# Altium schematic symbol library MOSFETs-DirectFET.SchLib: 2 symbols
Pins are listed as number, name and electrical type; pins without a type are passive.

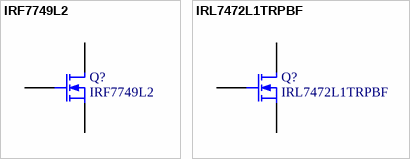
[diagram p0: symbols IRF7749L2 to IRL7472L1TRPBF]

## IRF7749L2
designator Q?
N-Channel MOSFET; PartNumber: IRF7749L1TRPBF; Manufacturer: Infineon Technologies; PackageReference: DIRECTFET L8; PackageDescription: DirectFET™ Isometric L8; Mounting Technology: Surface Mount
footprint DIRECTFET-9
pins: 1 G, 2 S, 3 D

## IRL7472L1TRPBF
designator Q?
N-Channel MOSFET; Manufacturer: Infineon Technologies; PackageReference: DIRECTFET L8; PackageDescription: DirectFET™ Isometric L8; PartNumber: IRL7472L1TRPBF; Mounting Technology: Surface Mount
footprint DIRECTFET-9
pins: 1 G, 2 S, 3 D